# Altium footprint library tuhuymb.PcbLib: 1 footprints
Each footprint in its own frame and in the unit in brackets; x right, y up, seen from the top. Pads: shape width x height; smd on the part's side, far side on the other; paste and mask are expansions set on the pad; w line width, h text height; cw(c..) or ccw(c..) is an arc to the next point about the centre after c.
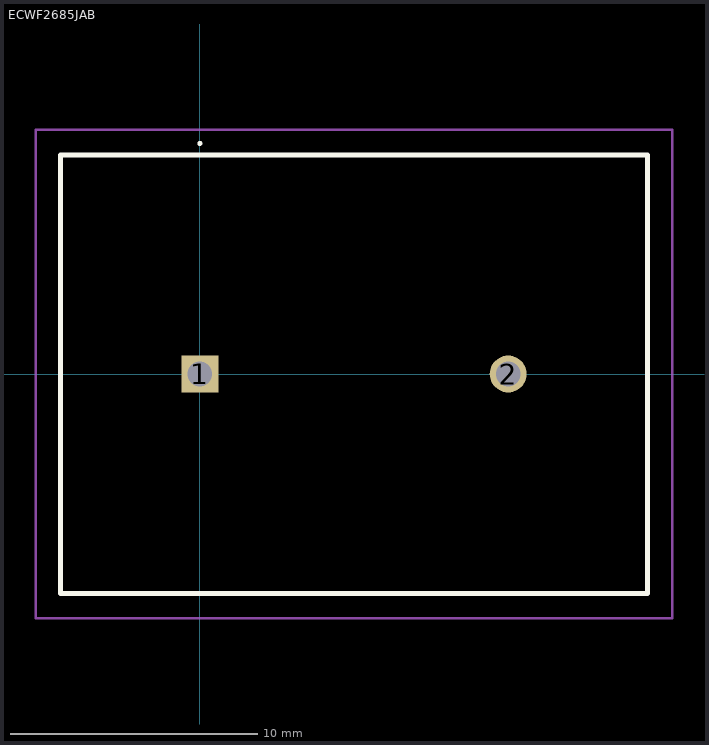
[diagram p0: the footprint, top view; thin cyan lines are the x and y axes]

## ECWF2685JAB [mm]
pads (2):
  rect 1.5x1.5 hole 1: 1(0,0)
  round 1.5 hole 1: 2(12.5,0)
Top Overlay:
  lines w0.1: 0,9.3 cw(c0,9.35) 0,9.4 cw(c0,9.35) 0,9.3
  lines w0.2: -5.65,-8.9 -5.65,8.88 18.15,8.88 18.15,-8.9 -5.65,-8.9
Mechanical 13:
  lines w0.1: -5.65,-8.9 -5.65,8.9 18.15,8.9 18.15,-8.9 -5.65,-8.9
Mechanical 15:
  lines w0.1: -6.65,-9.9 -6.65,9.9 19.15,9.9 19.15,-9.9 -6.65,-9.9
3D body "ECW-F2685JAB.stp": height 28.6, standoff -5, extent -5.65,-8.9 18.15,8.9